# Altium footprint library CON 0430450811.PcbLib: 1 footprints
Each footprint in its own frame and in the unit in brackets; x right, y up, seen from the top. Pads: shape width x height; smd on the part's side, far side on the other; paste and mask are expansions set on the pad; w line width, h text height; cw(c..) or ccw(c..) is an arc to the next point about the centre after c.
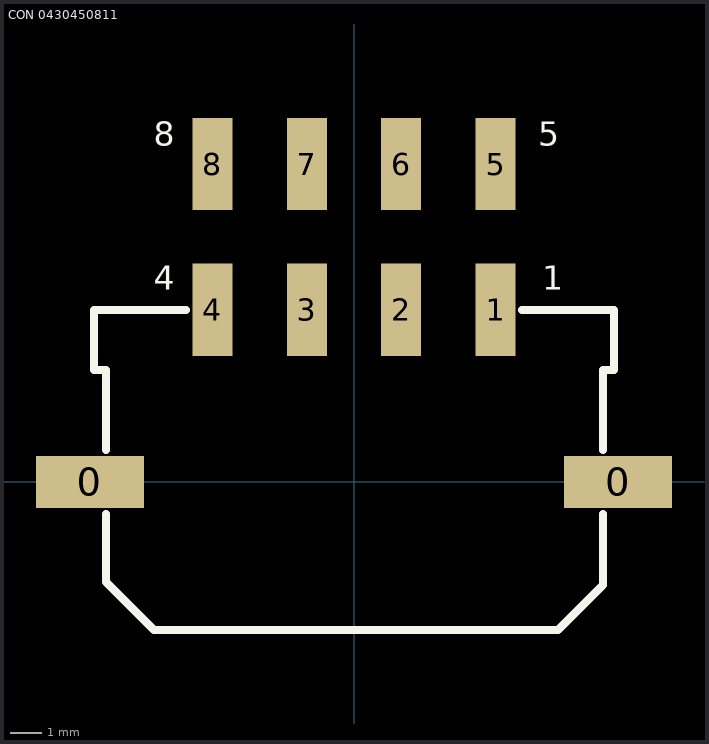
[diagram p0: the footprint, top view; thin cyan lines are the x and y axes]

## CON 0430450811 [mil]
pads (10):
  rect 135x65 smd: 0(-330,0) 0(330,0)
  rect 50x115 smd: 1(177,215) 2(59,215) 3(-59,215) 4(-177,215) 5(177,397) 6(59,397) 7(-59,397) 8(-177,397)
TopOverlay:
  lines w10: -310,-40 -310,-125 -250,-185 255,-185 311,-129 311,-40 ; -310,40 -310,140 -325,140 -325,215 -210,215 ; 210,215 325,215 325,140 311,140 311,40
  text "8" at -250,420 h30
  text "5" at 230,420 h30
  text "4" at -250,240 h30
  text "1" at 235,240 h30
3D body: height 345.35, standoff 0.08, extent -386.8,-179.88 386.82,426.42